# Altium footprint library PCB Footprints.PcbLib: 316 footprints (part 19 of 21)
Each footprint in its own frame and in the unit in brackets; x right, y up, seen from the top. Pads: shape width x height; smd on the part's side, far side on the other; paste and mask are expansions set on the pad; w line width, h text height; cw(c..) or ccw(c..) is an arc to the next point about the centre after c.
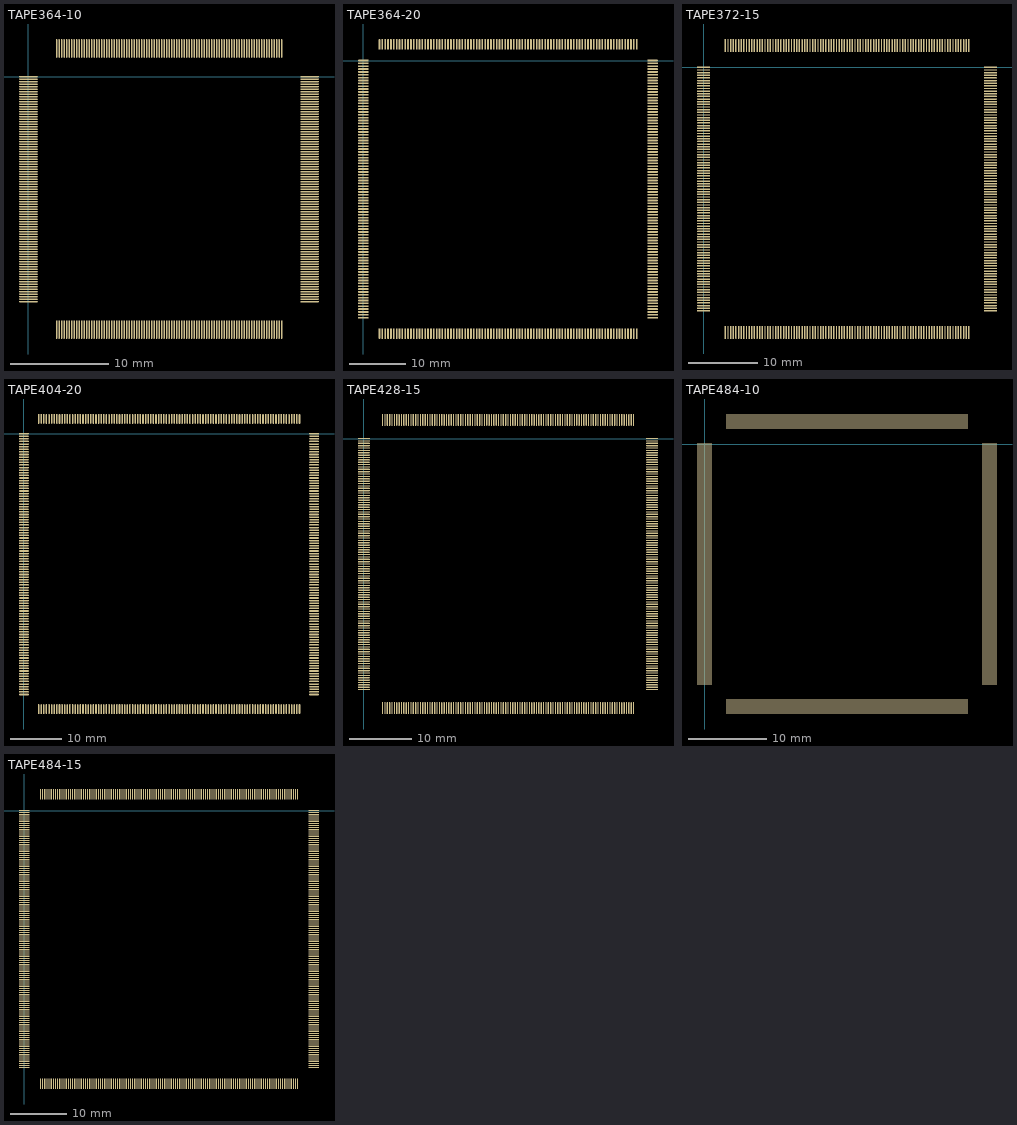
[diagram p18: the footprints below, top view; thin cyan lines are the x and y axes]

## TAPE364-10 [mil]
pads (364):
  oval 75x5 smd: 1(0,0) 2(0,-10) 3(0,-20) 4(0,-30) 5(0,-40) 6(0,-50) 7(0,-60) 8(0,-70) 9(0,-80) 10(0,-90) 11(0,-100) 12(0,-110) 13(0,-120) 14(0,-130) 15(0,-140) 16(0,-150) 17(0,-160) 18(0,-170) 19(0,-180) 20(0,-190) 21(0,-200) 22(0,-210) 23(0,-220) 24(0,-230) 25(0,-240) 26(0,-250) 27(0,-260) 28(0,-270) 29(0,-280) 30(0,-290) 31(0,-300) 32(0,-310) 33(0,-320) 34(0,-330) 35(0,-340) 36(0,-350) 37(0,-360) 38(0,-370) 39(0,-380) 40(0,-390) 41(0,-400) 42(0,-410) 43(0,-420) 44(0,-430) 45(0,-440) 46(0,-450) 47(0,-460) 48(0,-470) 49(0,-480) 50(0,-490) 51(0,-500) 52(0,-510) 53(0,-520) 54(0,-530) 55(0,-540) 56(0,-550) 57(0,-560) 58(0,-570) 59(0,-580) 60(0,-590) 61(0,-600) 62(0,-610) 63(0,-620) 64(0,-630) 65(0,-640) 66(0,-650) 67(0,-660) 68(0,-670) 69(0,-680) 70(0,-690) 71(0,-700) 72(0,-710) 73(0,-720) 74(0,-730) 75(0,-740) 76(0,-750) 77(0,-760) 78(0,-770) 79(0,-780) 80(0,-790) 81(0,-800) 82(0,-810) 83(0,-820) 84(0,-830) 85(0,-840) 86(0,-850) 87(0,-860) 88(0,-870) 89(0,-880) 90(0,-890) 91(0,-900) 183(1125,-900) 184(1125,-890) 185(1125,-880) 186(1125,-870) 187(1125,-860) 188(1125,-850) 189(1125,-840) 190(1125,-830) 191(1125,-820) 192(1125,-810) 193(1125,-800) 194(1125,-790) 195(1125,-780) 196(1125,-770) 197(1125,-760) 198(1125,-750) 199(1125,-740) 200(1125,-730) 201(1125,-720) 202(1125,-710) 203(1125,-700) 204(1125,-690) 205(1125,-680) 206(1125,-670) 207(1125,-660) 208(1125,-650) 209(1125,-640) 210(1125,-630) 211(1125,-620) 212(1125,-610) 213(1125,-600) 214(1125,-590) 215(1125,-580) 216(1125,-570) 217(1125,-560) 218(1125,-550) 219(1125,-540) 220(1125,-530) 221(1125,-520) 222(1125,-510) 223(1125,-500) 224(1125,-490) 225(1125,-480) 226(1125,-470) 227(1125,-460) 228(1125,-450) 229(1125,-440) 230(1125,-430) 231(1125,-420) 232(1125,-410) 233(1125,-400) 234(1125,-390) 235(1125,-380) 236(1125,-370) 237(1125,-360) 238(1125,-350) 239(1125,-340) 240(1125,-330) 241(1125,-320) 242(1125,-310) 243(1125,-300) 244(1125,-290) 245(1125,-280) 246(1125,-270) 247(1125,-260) 248(1125,-250) 249(1125,-240) 250(1125,-230) 251(1125,-220) 252(1125,-210) 253(1125,-200) 254(1125,-190) 255(1125,-180) 256(1125,-170) 257(1125,-160) 258(1125,-150) 259(1125,-140) 260(1125,-130) 261(1125,-120) 262(1125,-110) 263(1125,-100) 264(1125,-90) 265(1125,-80) 266(1125,-70) 267(1125,-60) 268(1125,-50) 269(1125,-40) 270(1125,-30) 271(1125,-20) 272(1125,-10) 273(1125,0)
  oval 5x75 smd: 92(113,-1012) 93(123,-1012) 94(133,-1012) 95(143,-1012) 96(153,-1012) 97(163,-1012) 98(173,-1012) 99(183,-1012) 100(193,-1012) 101(203,-1012) 102(213,-1012) 103(223,-1012) 104(233,-1012) 105(243,-1012) 106(253,-1012) 107(263,-1012) 108(273,-1012) 109(283,-1012) 110(293,-1012) 111(303,-1012) 112(313,-1012) 113(323,-1012) 114(333,-1012) 115(343,-1012) 116(353,-1012) 117(363,-1012) 118(373,-1012) 119(383,-1012) 120(393,-1012) 121(403,-1012) 122(413,-1012) 123(423,-1012) 124(433,-1012) 125(443,-1012) 126(453,-1012) 127(463,-1012) 128(473,-1012) 129(483,-1012) 130(493,-1012) 131(503,-1012) 132(513,-1012) 133(523,-1012) 134(533,-1012) 135(543,-1012) 136(553,-1012) 137(563,-1012) 138(573,-1012) 139(583,-1012) 140(593,-1012) 141(603,-1012) 142(613,-1012) 143(623,-1012) 144(633,-1012) 145(643,-1012) 146(653,-1012) 147(663,-1012) 148(673,-1012) 149(683,-1012) 150(693,-1012) 151(703,-1012) 152(713,-1012) 153(723,-1012) 154(733,-1012) 155(743,-1012) 156(753,-1012) 157(763,-1012) 158(773,-1012) 159(783,-1012) 160(793,-1012) 161(803,-1012) 162(813,-1012) 163(823,-1012) 164(833,-1012) 165(843,-1012) 166(853,-1012) 167(863,-1012) 168(873,-1012) 169(883,-1012) 170(893,-1012) 171(903,-1012) 172(913,-1012) 173(923,-1012) 174(933,-1012) 175(943,-1012) 176(953,-1012) 177(963,-1012) 178(973,-1012) 179(983,-1012) 180(993,-1012) 181(1003,-1012) 182(1013,-1012) 274(1013,113) 275(1003,113) 276(993,113) 277(983,113) 278(973,113) 279(963,113) 280(953,113) 281(943,113) 282(933,113) 283(923,113) 284(913,113) 285(903,113) 286(893,113) 287(883,113) 288(873,113) 289(863,113) 290(853,113) 291(843,113) 292(833,113) 293(823,113) 294(813,113) 295(803,113) 296(793,113) 297(783,113) 298(773,113) 299(763,113) 300(753,113) 301(743,113) 302(733,113) 303(723,113) 304(713,113) 305(703,113) 306(693,113) 307(683,113) 308(673,113) 309(663,113) 310(653,113) 311(643,113) 312(633,113) 313(623,113) 314(613,113) 315(603,113) 316(593,113) 317(583,113) 318(573,113) 319(563,113) 320(553,113) 321(543,113) 322(533,113) 323(523,113) 324(513,113) 325(503,113) 326(493,113) 327(483,113) 328(473,113) 329(463,113) 330(453,113) 331(443,113) 332(433,113) 333(423,113) 334(413,113) 335(403,113) 336(393,113) 337(383,113) 338(373,113) 339(363,113) 340(353,113) 341(343,113) 342(333,113) 343(323,113) 344(313,113) 345(303,113) 346(293,113) 347(283,113) 348(273,113) 349(263,113) 350(253,113) 351(243,113) 352(233,113) 353(223,113) 354(213,113) 355(203,113) 356(193,113) 357(183,113) 358(173,113) 359(163,113) 360(153,113) 361(143,113) 362(133,113) 363(123,113) 364(113,113)

## TAPE364-20 [mil]
pads (364):
  oval 75x12 smd: 1(0,0) 2(0,-20) 3(0,-40) 4(0,-60) 5(0,-80) 6(0,-100) 7(0,-120) 8(0,-140) 9(0,-160) 10(0,-180) 11(0,-200) 12(0,-220) 13(0,-240) 14(0,-260) 15(0,-280) 16(0,-300) 17(0,-320) 18(0,-340) 19(0,-360) 20(0,-380) 21(0,-400) 22(0,-420) 23(0,-440) 24(0,-460) 25(0,-480) 26(0,-500) 27(0,-520) 28(0,-540) 29(0,-560) 30(0,-580) 31(0,-600) 32(0,-620) 33(0,-640) 34(0,-660) 35(0,-680) 36(0,-700) 37(0,-720) 38(0,-740) 39(0,-760) 40(0,-780) 41(0,-800) 42(0,-820) 43(0,-840) 44(0,-860) 45(0,-880) 46(0,-900) 47(0,-920) 48(0,-940) 49(0,-960) 50(0,-980) 51(0,-1000) 52(0,-1020) 53(0,-1040) 54(0,-1060) 55(0,-1080) 56(0,-1100) 57(0,-1120) 58(0,-1140) 59(0,-1160) 60(0,-1180) 61(0,-1200) 62(0,-1220) 63(0,-1240) 64(0,-1260) 65(0,-1280) 66(0,-1300) 67(0,-1320) 68(0,-1340) 69(0,-1360) 70(0,-1380) 71(0,-1400) 72(0,-1420) 73(0,-1440) 74(0,-1460) 75(0,-1480) 76(0,-1500) 77(0,-1520) 78(0,-1540) 79(0,-1560) 80(0,-1580) 81(0,-1600) 82(0,-1620) 83(0,-1640) 84(0,-1660) 85(0,-1680) 86(0,-1700) 87(0,-1720) 88(0,-1740) 89(0,-1760) 90(0,-1780) 91(0,-1800) 183(2025,-1800) 184(2025,-1780) 185(2025,-1760) 186(2025,-1740) 187(2025,-1720) 188(2025,-1700) 189(2025,-1680) 190(2025,-1660) 191(2025,-1640) 192(2025,-1620) 193(2025,-1600) 194(2025,-1580) 195(2025,-1560) 196(2025,-1540) 197(2025,-1520) 198(2025,-1500) 199(2025,-1480) 200(2025,-1460) 201(2025,-1440) 202(2025,-1420) 203(2025,-1400) 204(2025,-1380) 205(2025,-1360) 206(2025,-1340) 207(2025,-1320) 208(2025,-1300) 209(2025,-1280) 210(2025,-1260) 211(2025,-1240) 212(2025,-1220) 213(2025,-1200) 214(2025,-1180) 215(2025,-1160) 216(2025,-1140) 217(2025,-1120) 218(2025,-1100) 219(2025,-1080) 220(2025,-1060) 221(2025,-1040) 222(2025,-1020) 223(2025,-1000) 224(2025,-980) 225(2025,-960) 226(2025,-940) 227(2025,-920) 228(2025,-900) 229(2025,-880) 230(2025,-860) 231(2025,-840) 232(2025,-820) 233(2025,-800) 234(2025,-780) 235(2025,-760) 236(2025,-740) 237(2025,-720) 238(2025,-700) 239(2025,-680) 240(2025,-660) 241(2025,-640) 242(2025,-620) 243(2025,-600) 244(2025,-580) 245(2025,-560) 246(2025,-540) 247(2025,-520) 248(2025,-500) 249(2025,-480) 250(2025,-460) 251(2025,-440) 252(2025,-420) 253(2025,-400) 254(2025,-380) 255(2025,-360) 256(2025,-340) 257(2025,-320) 258(2025,-300) 259(2025,-280) 260(2025,-260) 261(2025,-240) 262(2025,-220) 263(2025,-200) 264(2025,-180) 265(2025,-160) 266(2025,-140) 267(2025,-120) 268(2025,-100) 269(2025,-80) 270(2025,-60) 271(2025,-40) 272(2025,-20) 273(2025,0)
  oval 12x75 smd: 92(113,-1912) 93(133,-1912) 94(153,-1912) 95(173,-1912) 96(193,-1912) 97(213,-1912) 98(233,-1912) 99(253,-1912) 100(273,-1912) 101(293,-1912) 102(313,-1912) 103(333,-1912) 104(353,-1912) 105(373,-1912) 106(393,-1912) 107(413,-1912) 108(433,-1912) 109(453,-1912) 110(473,-1912) 111(493,-1912) 112(513,-1912) 113(533,-1912) 114(553,-1912) 115(573,-1912) 116(593,-1912) 117(613,-1912) 118(633,-1912) 119(653,-1912) 120(673,-1912) 121(693,-1912) 122(713,-1912) 123(733,-1912) 124(753,-1912) 125(773,-1912) 126(793,-1912) 127(813,-1912) 128(833,-1912) 129(853,-1912) 130(873,-1912) 131(893,-1912) 132(913,-1912) 133(933,-1912) 134(953,-1912) 135(973,-1912) 136(993,-1912) 137(1013,-1912) 138(1033,-1912) 139(1053,-1912) 140(1073,-1912) 141(1093,-1912) 142(1113,-1912) 143(1133,-1912) 144(1153,-1912) 145(1173,-1912) 146(1193,-1912) 147(1213,-1912) 148(1233,-1912) 149(1253,-1912) 150(1273,-1912) 151(1293,-1912) 152(1313,-1912) 153(1333,-1912) 154(1353,-1912) 155(1373,-1912) 156(1393,-1912) 157(1413,-1912) 158(1433,-1912) 159(1453,-1912) 160(1473,-1912) 161(1493,-1912) 162(1513,-1912) 163(1533,-1912) 164(1553,-1912) 165(1573,-1912) 166(1593,-1912) 167(1613,-1912) 168(1633,-1912) 169(1653,-1912) 170(1673,-1912) 171(1693,-1912) 172(1713,-1912) 173(1733,-1912) 174(1753,-1912) 175(1773,-1912) 176(1793,-1912) 177(1813,-1912) 178(1833,-1912) 179(1853,-1912) 180(1873,-1912) 181(1893,-1912) 182(1913,-1912) 274(1913,113) 275(1893,113) 276(1873,113) 277(1853,113) 278(1833,113) 279(1813,113) 280(1793,113) 281(1773,113) 282(1753,113) 283(1733,113) 284(1713,113) 285(1693,113) 286(1673,113) 287(1653,113) 288(1633,113) 289(1613,113) 290(1593,113) 291(1573,113) 292(1553,113) 293(1533,113) 294(1513,113) 295(1493,113) 296(1473,113) 297(1453,113) 298(1433,113) 299(1413,113) 300(1393,113) 301(1373,113) 302(1353,113) 303(1333,113) 304(1313,113) 305(1293,113) 306(1273,113) 307(1253,113) 308(1233,113) 309(1213,113) 310(1193,113) 311(1173,113) 312(1153,113) 313(1133,113) 314(1113,113) 315(1093,113) 316(1073,113) 317(1053,113) 318(1033,113) 319(1013,113) 320(993,113) 321(973,113) 322(953,113) 323(933,113) 324(913,113) 325(893,113) 326(873,113) 327(853,113) 328(833,113) 329(813,113) 330(793,113) 331(773,113) 332(753,113) 333(733,113) 334(713,113) 335(693,113) 336(673,113) 337(653,113) 338(633,113) 339(613,113) 340(593,113) 341(573,113) 342(553,113) 343(533,113) 344(513,113) 345(493,113) 346(473,113) 347(453,113) 348(433,113) 349(413,113) 350(393,113) 351(373,113) 352(353,113) 353(333,113) 354(313,113) 355(293,113) 356(273,113) 357(253,113) 358(233,113) 359(213,113) 360(193,113) 361(173,113) 362(153,113) 363(133,113) 364(113,113)

## TAPE372-15 [mil]
pads (372):
  oval 75x8 smd: 1(0,0) 2(0,-15) 3(0,-30) 4(0,-45) 5(0,-60) 6(0,-75) 7(0,-90) 8(0,-105) 9(0,-120) 10(0,-135) 11(0,-150) 12(0,-165) 13(0,-180) 14(0,-195) 15(0,-210) 16(0,-225) 17(0,-240) 18(0,-255) 19(0,-270) 20(0,-285) 21(0,-300) 22(0,-315) 23(0,-330) 24(0,-345) 25(0,-360) 26(0,-375) 27(0,-390) 28(0,-405) 29(0,-420) 30(0,-435) 31(0,-450) 32(0,-465) 33(0,-480) 34(0,-495) 35(0,-510) 36(0,-525) 37(0,-540) 38(0,-555) 39(0,-570) 40(0,-585) 41(0,-600) 42(0,-615) 43(0,-630) 44(0,-645) 45(0,-660) 46(0,-675) 47(0,-690) 48(0,-705) 49(0,-720) 50(0,-735) 51(0,-750) 52(0,-765) 53(0,-780) 54(0,-795) 55(0,-810) 56(0,-825) 57(0,-840) 58(0,-855) 59(0,-870) 60(0,-885) 61(0,-900) 62(0,-915) 63(0,-930) 64(0,-945) 65(0,-960) 66(0,-975) 67(0,-990) 68(0,-1005) 69(0,-1020) 70(0,-1035) 71(0,-1050) 72(0,-1065) 73(0,-1080) 74(0,-1095) 75(0,-1110) 76(0,-1125) 77(0,-1140) 78(0,-1155) 79(0,-1170) 80(0,-1185) 81(0,-1200) 82(0,-1215) 83(0,-1230) 84(0,-1245) 85(0,-1260) 86(0,-1275) 87(0,-1290) 88(0,-1305) 89(0,-1320) 90(0,-1335) 91(0,-1350) 92(0,-1365) 93(0,-1380) 187(1625,-1380) 188(1625,-1365) 189(1625,-1350) 190(1625,-1335) 191(1625,-1320) 192(1625,-1305) 193(1625,-1290) 194(1625,-1275) 195(1625,-1260) 196(1625,-1245) 197(1625,-1230) 198(1625,-1215) 199(1625,-1200) 200(1625,-1185) 201(1625,-1170) 202(1625,-1155) 203(1625,-1140) 204(1625,-1125) 205(1625,-1110) 206(1625,-1095) 207(1625,-1080) 208(1625,-1065) 209(1625,-1050) 210(1625,-1035) 211(1625,-1020) 212(1625,-1005) 213(1625,-990) 214(1625,-975) 215(1625,-960) 216(1625,-945) 217(1625,-930) 218(1625,-915) 219(1625,-900) 220(1625,-885) 221(1625,-870) 222(1625,-855) 223(1625,-840) 224(1625,-825) 225(1625,-810) 226(1625,-795) 227(1625,-780) 228(1625,-765) 229(1625,-750) 230(1625,-735) 231(1625,-720) 232(1625,-705) 233(1625,-690) 234(1625,-675) 235(1625,-660) 236(1625,-645) 237(1625,-630) 238(1625,-615) 239(1625,-600) 240(1625,-585) 241(1625,-570) 242(1625,-555) 243(1625,-540) 244(1625,-525) 245(1625,-510) 246(1625,-495) 247(1625,-480) 248(1625,-465) 249(1625,-450) 250(1625,-435) 251(1625,-420) 252(1625,-405) 253(1625,-390) 254(1625,-375) 255(1625,-360) 256(1625,-345) 257(1625,-330) 258(1625,-315) 259(1625,-300) 260(1625,-285) 261(1625,-270) 262(1625,-255) 263(1625,-240) 264(1625,-225) 265(1625,-210) 266(1625,-195) 267(1625,-180) 268(1625,-165) 269(1625,-150) 270(1625,-135) 271(1625,-120) 272(1625,-105) 273(1625,-90) 274(1625,-75) 275(1625,-60) 276(1625,-45) 277(1625,-30) 278(1625,-15) 279(1625,0)
  oval 8x75 smd: 94(123,-1502) 95(138,-1502) 96(153,-1502) 97(168,-1502) 98(183,-1502) 99(198,-1502) 100(213,-1502) 101(228,-1502) 102(243,-1502) 103(258,-1502) 104(273,-1502) 105(288,-1502) 106(303,-1502) 107(318,-1502) 108(333,-1502) 109(348,-1502) 110(363,-1502) 111(378,-1502) 112(393,-1502) 113(408,-1502) 114(423,-1502) 115(438,-1502) 116(453,-1502) 117(468,-1502) 118(483,-1502) 119(498,-1502) 120(513,-1502) 121(528,-1502) 122(543,-1502) 123(558,-1502) 124(573,-1502) 125(588,-1502) 126(603,-1502) 127(618,-1502) 128(633,-1502) 129(648,-1502) 130(663,-1502) 131(678,-1502) 132(693,-1502) 133(708,-1502) 134(723,-1502) 135(738,-1502) 136(753,-1502) 137(768,-1502) 138(783,-1502) 139(798,-1502) 140(813,-1502) 141(828,-1502) 142(843,-1502) 143(858,-1502) 144(873,-1502) 145(888,-1502) 146(903,-1502) 147(918,-1502) 148(933,-1502) 149(948,-1502) 150(963,-1502) 151(978,-1502) 152(993,-1502) 153(1008,-1502) 154(1023,-1502) 155(1038,-1502) 156(1053,-1502) 157(1068,-1502) 158(1083,-1502) 159(1098,-1502) 160(1113,-1502) 161(1128,-1502) 162(1143,-1502) 163(1158,-1502) 164(1173,-1502) 165(1188,-1502) 166(1203,-1502) 167(1218,-1502) 168(1233,-1502) 169(1248,-1502) 170(1263,-1502) 171(1278,-1502) 172(1293,-1502) 173(1308,-1502) 174(1323,-1502) 175(1338,-1502) 176(1353,-1502) 177(1368,-1502) 178(1383,-1502) 179(1398,-1502) 180(1413,-1502) 181(1428,-1502) 182(1443,-1502) 183(1458,-1502) 184(1473,-1502) 185(1488,-1502) 186(1503,-1502) 280(1503,123) 281(1488,123) 282(1473,123) 283(1458,123) 284(1443,123) 285(1428,123) 286(1413,123) 287(1398,123) 288(1383,123) 289(1368,123) 290(1353,123) 291(1338,123) 292(1323,123) 293(1308,123) 294(1293,123) 295(1278,123) 296(1263,123) 297(1248,123) 298(1233,123) 299(1218,123) 300(1203,123) 301(1188,123) 302(1173,123) 303(1158,123) 304(1143,123) 305(1128,123) 306(1113,123) 307(1098,123) 308(1083,123) 309(1068,123) 310(1053,123) 311(1038,123) 312(1023,123) 313(1008,123) 314(993,123) 315(978,123) 316(963,123) 317(948,123) 318(933,123) 319(918,123) 320(903,123) 321(888,123) 322(873,123) 323(858,123) 324(843,123) 325(828,123) 326(813,123) 327(798,123) 328(783,123) 329(768,123) 330(753,123) 331(738,123) 332(723,123) 333(708,123) 334(693,123) 335(678,123) 336(663,123) 337(648,123) 338(633,123) 339(618,123) 340(603,123) 341(588,123) 342(573,123) 343(558,123) 344(543,123) 345(528,123) 346(513,123) 347(498,123) 348(483,123) 349(468,123) 350(453,123) 351(438,123) 352(423,123) 353(408,123) 354(393,123) 355(378,123) 356(363,123) 357(348,123) 358(333,123) 359(318,123) 360(303,123) 361(288,123) 362(273,123) 363(258,123) 364(243,123) 365(228,123) 366(213,123) 367(198,123) 368(183,123) 369(168,123) 370(153,123) 371(138,123) 372(123,123)

## TAPE404-20 [mil]
pads (404):
  oval 75x12 smd: 1(0,0) 2(0,-20) 3(0,-40) 4(0,-60) 5(0,-80) 6(0,-100) 7(0,-120) 8(0,-140) 9(0,-160) 10(0,-180) 11(0,-200) 12(0,-220) 13(0,-240) 14(0,-260) 15(0,-280) 16(0,-300) 17(0,-320) 18(0,-340) 19(0,-360) 20(0,-380) 21(0,-400) 22(0,-420) 23(0,-440) 24(0,-460) 25(0,-480) 26(0,-500) 27(0,-520) 28(0,-540) 29(0,-560) 30(0,-580) 31(0,-600) 32(0,-620) 33(0,-640) 34(0,-660) 35(0,-680) 36(0,-700) 37(0,-720) 38(0,-740) 39(0,-760) 40(0,-780) 41(0,-800) 42(0,-820) 43(0,-840) 44(0,-860) 45(0,-880) 46(0,-900) 47(0,-920) 48(0,-940) 49(0,-960) 50(0,-980) 51(0,-1000) 52(0,-1020) 53(0,-1040) 54(0,-1060) 55(0,-1080) 56(0,-1100) 57(0,-1120) 58(0,-1140) 59(0,-1160) 60(0,-1180) 61(0,-1200) 62(0,-1220) 63(0,-1240) 64(0,-1260) 65(0,-1280) 66(0,-1300) 67(0,-1320) 68(0,-1340) 69(0,-1360) 70(0,-1380) 71(0,-1400) 72(0,-1420) 73(0,-1440) 74(0,-1460) 75(0,-1480) 76(0,-1500) 77(0,-1520) 78(0,-1540) 79(0,-1560) 80(0,-1580) 81(0,-1600) 82(0,-1620) 83(0,-1640) 84(0,-1660) 85(0,-1680) 86(0,-1700) 87(0,-1720) 88(0,-1740) 89(0,-1760) 90(0,-1780) 91(0,-1800) 92(0,-1820) 93(0,-1840) 94(0,-1860) 95(0,-1880) 96(0,-1900) 97(0,-1920) 98(0,-1940) 99(0,-1960) 100(0,-1980) 101(0,-2000) 203(2225,-2000) 204(2225,-1980) 205(2225,-1960) 206(2225,-1940) 207(2225,-1920) 208(2225,-1900) 209(2225,-1880) 210(2225,-1860) 211(2225,-1840) 212(2225,-1820) 213(2225,-1800) 214(2225,-1780) 215(2225,-1760) 216(2225,-1740) 217(2225,-1720) 218(2225,-1700) 219(2225,-1680) 220(2225,-1660) 221(2225,-1640) 222(2225,-1620) 223(2225,-1600) 224(2225,-1580) 225(2225,-1560) 226(2225,-1540) 227(2225,-1520) 228(2225,-1500) 229(2225,-1480) 230(2225,-1460) 231(2225,-1440) 232(2225,-1420) 233(2225,-1400) 234(2225,-1380) 235(2225,-1360) 236(2225,-1340) 237(2225,-1320) 238(2225,-1300) 239(2225,-1280) 240(2225,-1260) 241(2225,-1240) 242(2225,-1220) 243(2225,-1200) 244(2225,-1180) 245(2225,-1160) 246(2225,-1140) 247(2225,-1120) 248(2225,-1100) 249(2225,-1080) 250(2225,-1060) 251(2225,-1040) 252(2225,-1020) 253(2225,-1000) 254(2225,-980) 255(2225,-960) 256(2225,-940) 257(2225,-920) 258(2225,-900) 259(2225,-880) 260(2225,-860) 261(2225,-840) 262(2225,-820) 263(2225,-800) 264(2225,-780) 265(2225,-760) 266(2225,-740) 267(2225,-720) 268(2225,-700) 269(2225,-680) 270(2225,-660) 271(2225,-640) 272(2225,-620) 273(2225,-600) 274(2225,-580) 275(2225,-560) 276(2225,-540) 277(2225,-520) 278(2225,-500) 279(2225,-480) 280(2225,-460) 281(2225,-440) 282(2225,-420) 283(2225,-400) 284(2225,-380) 285(2225,-360) 286(2225,-340) 287(2225,-320) 288(2225,-300) 289(2225,-280) 290(2225,-260) 291(2225,-240) 292(2225,-220) 293(2225,-200) 294(2225,-180) 295(2225,-160) 296(2225,-140) 297(2225,-120) 298(2225,-100) 299(2225,-80) 300(2225,-60) 301(2225,-40) 302(2225,-20) 303(2225,0)
  oval 12x75 smd: 102(113,-2112) 103(133,-2112) 104(153,-2112) 105(173,-2112) 106(193,-2112) 107(213,-2112) 108(233,-2112) 109(253,-2112) 110(273,-2112) 111(293,-2112) 112(313,-2112) 113(333,-2112) 114(353,-2112) 115(373,-2112) 116(393,-2112) 117(413,-2112) 118(433,-2112) 119(453,-2112) 120(473,-2112) 121(493,-2112) 122(513,-2112) 123(533,-2112) 124(553,-2112) 125(573,-2112) 126(593,-2112) 127(613,-2112) 128(633,-2112) 129(653,-2112) 130(673,-2112) 131(693,-2112) 132(713,-2112) 133(733,-2112) 134(753,-2112) 135(773,-2112) 136(793,-2112) 137(813,-2112) 138(833,-2112) 139(853,-2112) 140(873,-2112) 141(893,-2112) 142(913,-2112) 143(933,-2112) 144(953,-2112) 145(973,-2112) 146(993,-2112) 147(1013,-2112) 148(1033,-2112) 149(1053,-2112) 150(1073,-2112) 151(1093,-2112) 152(1113,-2112) 153(1133,-2112) 154(1153,-2112) 155(1173,-2112) 156(1193,-2112) 157(1213,-2112) 158(1233,-2112) 159(1253,-2112) 160(1273,-2112) 161(1293,-2112) 162(1313,-2112) 163(1333,-2112) 164(1353,-2112) 165(1373,-2112) 166(1393,-2112) 167(1413,-2112) 168(1433,-2112) 169(1453,-2112) 170(1473,-2112) 171(1493,-2112) 172(1513,-2112) 173(1533,-2112) 174(1553,-2112) 175(1573,-2112) 176(1593,-2112) 177(1613,-2112) 178(1633,-2112) 179(1653,-2112) 180(1673,-2112) 181(1693,-2112) 182(1713,-2112) 183(1733,-2112) 184(1753,-2112) 185(1773,-2112) 186(1793,-2112) 187(1813,-2112) 188(1833,-2112) 189(1853,-2112) 190(1873,-2112) 191(1893,-2112) 192(1913,-2112) 193(1933,-2112) 194(1953,-2112) 195(1973,-2112) 196(1993,-2112) 197(2013,-2112) 198(2033,-2112) 199(2053,-2112) 200(2073,-2112) 201(2093,-2112) 202(2113,-2112) 304(2113,113) 305(2093,113) 306(2073,113) 307(2053,113) 308(2033,113) 309(2013,113) 310(1993,113) 311(1973,113) 312(1953,113) 313(1933,113) 314(1913,113) 315(1893,113) 316(1873,113) 317(1853,113) 318(1833,113) 319(1813,113) 320(1793,113) 321(1773,113) 322(1753,113) 323(1733,113) 324(1713,113) 325(1693,113) 326(1673,113) 327(1653,113) 328(1633,113) 329(1613,113) 330(1593,113) 331(1573,113) 332(1553,113) 333(1533,113) 334(1513,113) 335(1493,113) 336(1473,113) 337(1453,113) 338(1433,113) 339(1413,113) 340(1393,113) 341(1373,113) 342(1353,113) 343(1333,113) 344(1313,113) 345(1293,113) 346(1273,113) 347(1253,113) 348(1233,113) 349(1213,113) 350(1193,113) 351(1173,113) 352(1153,113) 353(1133,113) 354(1113,113) 355(1093,113) 356(1073,113) 357(1053,113) 358(1033,113) 359(1013,113) 360(993,113) 361(973,113) 362(953,113) 363(933,113) 364(913,113) 365(893,113) 366(873,113) 367(853,113) 368(833,113) 369(813,113) 370(793,113) 371(773,113) 372(753,113) 373(733,113) 374(713,113) 375(693,113) 376(673,113) 377(653,113) 378(633,113) 379(613,113) 380(593,113) 381(573,113) 382(553,113) 383(533,113) 384(513,113) 385(493,113) 386(473,113) 387(453,113) 388(433,113) 389(413,113) 390(393,113) 391(373,113) 392(353,113) 393(333,113) 394(313,113) 395(293,113) 396(273,113) 397(253,113) 398(233,113) 399(213,113) 400(193,113) 401(173,113) 402(153,113) 403(133,113) 404(113,113)

## TAPE428-15 [mil]
pads (428):
  oval 75x8 smd: 1(0,0) 2(0,-15) 3(0,-30) 4(0,-45) 5(0,-60) 6(0,-75) 7(0,-90) 8(0,-105) 9(0,-120) 10(0,-135) 11(0,-150) 12(0,-165) 13(0,-180) 14(0,-195) 15(0,-210) 16(0,-225) 17(0,-240) 18(0,-255) 19(0,-270) 20(0,-285) 21(0,-300) 22(0,-315) 23(0,-330) 24(0,-345) 25(0,-360) 26(0,-375) 27(0,-390) 28(0,-405) 29(0,-420) 30(0,-435) 31(0,-450) 32(0,-465) 33(0,-480) 34(0,-495) 35(0,-510) 36(0,-525) 37(0,-540) 38(0,-555) 39(0,-570) 40(0,-585) 41(0,-600) 42(0,-615) 43(0,-630) 44(0,-645) 45(0,-660) 46(0,-675) 47(0,-690) 48(0,-705) 49(0,-720) 50(0,-735) 51(0,-750) 52(0,-765) 53(0,-780) 54(0,-795) 55(0,-810) 56(0,-825) 57(0,-840) 58(0,-855) 59(0,-870) 60(0,-885) 61(0,-900) 62(0,-915) 63(0,-930) 64(0,-945) 65(0,-960) 66(0,-975) 67(0,-990) 68(0,-1005) 69(0,-1020) 70(0,-1035) 71(0,-1050) 72(0,-1065) 73(0,-1080) 74(0,-1095) 75(0,-1110) 76(0,-1125) 77(0,-1140) 78(0,-1155) 79(0,-1170) 80(0,-1185) 81(0,-1200) 82(0,-1215) 83(0,-1230) 84(0,-1245) 85(0,-1260) 86(0,-1275) 87(0,-1290) 88(0,-1305) 89(0,-1320) 90(0,-1335) 91(0,-1350) 92(0,-1365) 93(0,-1380) 94(0,-1395) 95(0,-1410) 96(0,-1425) 97(0,-1440) 98(0,-1455) 99(0,-1470) 100(0,-1485) 101(0,-1500) 102(0,-1515) 103(0,-1530) 104(0,-1545) 105(0,-1560) 106(0,-1575) 107(0,-1590) 215(1825,-1590) 216(1825,-1575) 217(1825,-1560) 218(1825,-1545) 219(1825,-1530) 220(1825,-1515) 221(1825,-1500) 222(1825,-1485) 223(1825,-1470) 224(1825,-1455) 225(1825,-1440) 226(1825,-1425) 227(1825,-1410) 228(1825,-1395) 229(1825,-1380) 230(1825,-1365) 231(1825,-1350) 232(1825,-1335) 233(1825,-1320) 234(1825,-1305) 235(1825,-1290) 236(1825,-1275) 237(1825,-1260) 238(1825,-1245) 239(1825,-1230) 240(1825,-1215) 241(1825,-1200) 242(1825,-1185) 243(1825,-1170) 244(1825,-1155) 245(1825,-1140) 246(1825,-1125) 247(1825,-1110) 248(1825,-1095) 249(1825,-1080) 250(1825,-1065) 251(1825,-1050) 252(1825,-1035) 253(1825,-1020) 254(1825,-1005) 255(1825,-990) 256(1825,-975) 257(1825,-960) 258(1825,-945) 259(1825,-930) 260(1825,-915) 261(1825,-900) 262(1825,-885) 263(1825,-870) 264(1825,-855) 265(1825,-840) 266(1825,-825) 267(1825,-810) 268(1825,-795) 269(1825,-780) 270(1825,-765) 271(1825,-750) 272(1825,-735) 273(1825,-720) 274(1825,-705) 275(1825,-690) 276(1825,-675) 277(1825,-660) 278(1825,-645) 279(1825,-630) 280(1825,-615) 281(1825,-600) 282(1825,-585) 283(1825,-570) 284(1825,-555) 285(1825,-540) 286(1825,-525) 287(1825,-510) 288(1825,-495) 289(1825,-480) 290(1825,-465) 291(1825,-450) 292(1825,-435) 293(1825,-420) 294(1825,-405) 295(1825,-390) 296(1825,-375) 297(1825,-360) 298(1825,-345) 299(1825,-330) 300(1825,-315) 301(1825,-300) 302(1825,-285) 303(1825,-270) 304(1825,-255) 305(1825,-240) 306(1825,-225) 307(1825,-210) 308(1825,-195) 309(1825,-180) 310(1825,-165) 311(1825,-150) 312(1825,-135) 313(1825,-120) 314(1825,-105) 315(1825,-90) 316(1825,-75) 317(1825,-60) 318(1825,-45) 319(1825,-30) 320(1825,-15) 321(1825,0)
  oval 8x75 smd: 108(118,-1707) 109(133,-1707) 110(148,-1707) 111(163,-1707) 112(178,-1707) 113(193,-1707) 114(208,-1707) 115(223,-1707) 116(238,-1707) 117(253,-1707) 118(268,-1707) 119(283,-1707) 120(298,-1707) 121(313,-1707) 122(328,-1707) 123(343,-1707) 124(358,-1707) 125(373,-1707) 126(388,-1707) 127(403,-1707) 128(418,-1707) 129(433,-1707) 130(448,-1707) 131(463,-1707) 132(478,-1707) 133(493,-1707) 134(508,-1707) 135(523,-1707) 136(538,-1707) 137(553,-1707) 138(568,-1707) 139(583,-1707) 140(598,-1707) 141(613,-1707) 142(628,-1707) 143(643,-1707) 144(658,-1707) 145(673,-1707) 146(688,-1707) 147(703,-1707) 148(718,-1707) 149(733,-1707) 150(748,-1707) 151(763,-1707) 152(778,-1707) 153(793,-1707) 154(808,-1707) 155(823,-1707) 156(838,-1707) 157(853,-1707) 158(868,-1707) 159(883,-1707) 160(898,-1707) 161(913,-1707) 162(928,-1707) 163(943,-1707) 164(958,-1707) 165(973,-1707) 166(988,-1707) 167(1003,-1707) 168(1018,-1707) 169(1033,-1707) 170(1048,-1707) 171(1063,-1707) 172(1078,-1707) 173(1093,-1707) 174(1108,-1707) 175(1123,-1707) 176(1138,-1707) 177(1153,-1707) 178(1168,-1707) 179(1183,-1707) 180(1198,-1707) 181(1213,-1707) 182(1228,-1707) 183(1243,-1707) 184(1258,-1707) 185(1273,-1707) 186(1288,-1707) 187(1303,-1707) 188(1318,-1707) 189(1333,-1707) 190(1348,-1707) 191(1363,-1707) 192(1378,-1707) 193(1393,-1707) 194(1408,-1707) 195(1423,-1707) 196(1438,-1707) 197(1453,-1707) 198(1468,-1707) 199(1483,-1707) 200(1498,-1707) 201(1513,-1707) 202(1528,-1707) 203(1543,-1707) 204(1558,-1707) 205(1573,-1707) 206(1588,-1707) 207(1603,-1707) 208(1618,-1707) 209(1633,-1707) 210(1648,-1707) 211(1663,-1707) 212(1678,-1707) 213(1693,-1707) 214(1708,-1707) 322(1708,118) 323(1693,118) 324(1678,118) 325(1663,118) 326(1648,118) 327(1633,118) 328(1618,118) 329(1603,118) 330(1588,118) 331(1573,118) 332(1558,118) 333(1543,118) 334(1528,118) 335(1513,118) 336(1498,118) 337(1483,118) 338(1468,118) 339(1453,118) 340(1438,118) 341(1423,118) 342(1408,118) 343(1393,118) 344(1378,118) 345(1363,118) 346(1348,118) 347(1333,118) 348(1318,118) 349(1303,118) 350(1288,118) 351(1273,118) 352(1258,118) 353(1243,118) 354(1228,118) 355(1213,118) 356(1198,118) 357(1183,118) 358(1168,118) 359(1153,118) 360(1138,118) 361(1123,118) 362(1108,118) 363(1093,118) 364(1078,118) 365(1063,118) 366(1048,118) 367(1033,118) 368(1018,118) 369(1003,118) 370(988,118) 371(973,118) 372(958,118) 373(943,118) 374(928,118) 375(913,118) 376(898,118) 377(883,118) 378(868,118) 379(853,118) 380(838,118) 381(823,118) 382(808,118) 383(793,118) 384(778,118) 385(763,118) 386(748,118) 387(733,118) 388(718,118) 389(703,118) 390(688,118) 391(673,118) 392(658,118) 393(643,118) 394(628,118) 395(613,118) 396(598,118) 397(583,118) 398(568,118) 399(553,118) 400(538,118) 401(523,118) 402(508,118) 403(493,118) 404(478,118) 405(463,118) 406(448,118) 407(433,118) 408(418,118) 409(403,118) 410(388,118) 411(373,118) 412(358,118) 413(343,118) 414(328,118) 415(313,118) 416(298,118) 417(283,118) 418(268,118) 419(253,118) 420(238,118) 421(223,118) 422(208,118) 423(193,118) 424(178,118) 425(163,118) 426(148,118) 427(133,118) 428(118,118)

## TAPE484-10 [mil]
pads (484):
  oval 75x5 smd: 1(0,0) 2(0,-10) 3(0,-20) 4(0,-30) 5(0,-40) 6(0,-50) 7(0,-60) 8(0,-70) 9(0,-80) 10(0,-90) 11(0,-100) 12(0,-110) 13(0,-120) 14(0,-130) 15(0,-140) 16(0,-150) 17(0,-160) 18(0,-170) 19(0,-180) 20(0,-190) 21(0,-200) 22(0,-210) 23(0,-220) 24(0,-230) 25(0,-240) 26(0,-250) 27(0,-260) 28(0,-270) 29(0,-280) 30(0,-290) 31(0,-300) 32(0,-310) 33(0,-320) 34(0,-330) 35(0,-340) 36(0,-350) 37(0,-360) 38(0,-370) 39(0,-380) 40(0,-390) 41(0,-400) 42(0,-410) 43(0,-420) 44(0,-430) 45(0,-440) 46(0,-450) 47(0,-460) 48(0,-470) 49(0,-480) 50(0,-490) 51(0,-500) 52(0,-510) 53(0,-520) 54(0,-530) 55(0,-540) 56(0,-550) 57(0,-560) 58(0,-570) 59(0,-580) 60(0,-590) 61(0,-600) 62(0,-610) 63(0,-620) 64(0,-630) 65(0,-640) 66(0,-650) 67(0,-660) 68(0,-670) 69(0,-680) 70(0,-690) 71(0,-700) 72(0,-710) 73(0,-720) 74(0,-730) 75(0,-740) 76(0,-750) 77(0,-760) 78(0,-770) 79(0,-780) 80(0,-790) 81(0,-800) 82(0,-810) 83(0,-820) 84(0,-830) 85(0,-840) 86(0,-850) 87(0,-860) 88(0,-870) 89(0,-880) 90(0,-890) 91(0,-900) 92(0,-910) 93(0,-920) 94(0,-930) 95(0,-940) 96(0,-950) 97(0,-960) 98(0,-970) 99(0,-980) 100(0,-990) 101(0,-1000) 102(0,-1010) 103(0,-1020) 104(0,-1030) 105(0,-1040) 106(0,-1050) 107(0,-1060) 108(0,-1070) 109(0,-1080) 110(0,-1090) 111(0,-1100) 112(0,-1110) 113(0,-1120) 114(0,-1130) 115(0,-1140) 116(0,-1150) 117(0,-1160) 118(0,-1170) 119(0,-1180) 120(0,-1190) 121(0,-1200) 243(1425,-1200) 244(1425,-1190) 245(1425,-1180) 246(1425,-1170) 247(1425,-1160) 248(1425,-1150) 249(1425,-1140) 250(1425,-1130) 251(1425,-1120) 252(1425,-1110) 253(1425,-1100) 254(1425,-1090) 255(1425,-1080) 256(1425,-1070) 257(1425,-1060) 258(1425,-1050) 259(1425,-1040) 260(1425,-1030) 261(1425,-1020) 262(1425,-1010) 263(1425,-1000) 264(1425,-990) 265(1425,-980) 266(1425,-970) 267(1425,-960) 268(1425,-950) 269(1425,-940) 270(1425,-930) 271(1425,-920) 272(1425,-910) 273(1425,-900) 274(1425,-890) 275(1425,-880) 276(1425,-870) 277(1425,-860) 278(1425,-850) 279(1425,-840) 280(1425,-830) 281(1425,-820) 282(1425,-810) 283(1425,-800) 284(1425,-790) 285(1425,-780) 286(1425,-770) 287(1425,-760) 288(1425,-750) 289(1425,-740) 290(1425,-730) 291(1425,-720) 292(1425,-710) 293(1425,-700) 294(1425,-690) 295(1425,-680) 296(1425,-670) 297(1425,-660) 298(1425,-650) 299(1425,-640) 300(1425,-630) 301(1425,-620) 302(1425,-610) 303(1425,-600) 304(1425,-590) 305(1425,-580) 306(1425,-570) 307(1425,-560) 308(1425,-550) 309(1425,-540) 310(1425,-530) 311(1425,-520) 312(1425,-510) 313(1425,-500) 314(1425,-490) 315(1425,-480) 316(1425,-470) 317(1425,-460) 318(1425,-450) 319(1425,-440) 320(1425,-430) 321(1425,-420) 322(1425,-410) 323(1425,-400) 324(1425,-390) 325(1425,-380) 326(1425,-370) 327(1425,-360) 328(1425,-350) 329(1425,-340) 330(1425,-330) 331(1425,-320) 332(1425,-310) 333(1425,-300) 334(1425,-290) 335(1425,-280) 336(1425,-270) 337(1425,-260) 338(1425,-250) 339(1425,-240) 340(1425,-230) 341(1425,-220) 342(1425,-210) 343(1425,-200) 344(1425,-190) 345(1425,-180) 346(1425,-170) 347(1425,-160) 348(1425,-150) 349(1425,-140) 350(1425,-130) 351(1425,-120) 352(1425,-110) 353(1425,-100) 354(1425,-90) 355(1425,-80) 356(1425,-70) 357(1425,-60) 358(1425,-50) 359(1425,-40) 360(1425,-30) 361(1425,-20) 362(1425,-10) 363(1425,0)
  oval 5x75 smd: 122(113,-1312) 123(123,-1312) 124(133,-1312) 125(143,-1312) 126(153,-1312) 127(163,-1312) 128(173,-1312) 129(183,-1312) 130(193,-1312) 131(203,-1312) 132(213,-1312) 133(223,-1312) 134(233,-1312) 135(243,-1312) 136(253,-1312) 137(263,-1312) 138(273,-1312) 139(283,-1312) 140(293,-1312) 141(303,-1312) 142(313,-1312) 143(323,-1312) 144(333,-1312) 145(343,-1312) 146(353,-1312) 147(363,-1312) 148(373,-1312) 149(383,-1312) 150(393,-1312) 151(403,-1312) 152(413,-1312) 153(423,-1312) 154(433,-1312) 155(443,-1312) 156(453,-1312) 157(463,-1312) 158(473,-1312) 159(483,-1312) 160(493,-1312) 161(503,-1312) 162(513,-1312) 163(523,-1312) 164(533,-1312) 165(543,-1312) 166(553,-1312) 167(563,-1312) 168(573,-1312) 169(583,-1312) 170(593,-1312) 171(603,-1312) 172(613,-1312) 173(623,-1312) 174(633,-1312) 175(643,-1312) 176(653,-1312) 177(663,-1312) 178(673,-1312) 179(683,-1312) 180(693,-1312) 181(703,-1312) 182(713,-1312) 183(723,-1312) 184(733,-1312) 185(743,-1312) 186(753,-1312) 187(763,-1312) 188(773,-1312) 189(783,-1312) 190(793,-1312) 191(803,-1312) 192(813,-1312) 193(823,-1312) 194(833,-1312) 195(843,-1312) 196(853,-1312) 197(863,-1312) 198(873,-1312) 199(883,-1312) 200(893,-1312) 201(903,-1312) 202(913,-1312) 203(923,-1312) 204(933,-1312) 205(943,-1312) 206(953,-1312) 207(963,-1312) 208(973,-1312) 209(983,-1312) 210(993,-1312) 211(1003,-1312) 212(1013,-1312) 213(1023,-1312) 214(1033,-1312) 215(1043,-1312) 216(1053,-1312) 217(1063,-1312) 218(1073,-1312) 219(1083,-1312) 220(1093,-1312) 221(1103,-1312) 222(1113,-1312) 223(1123,-1312) 224(1133,-1312) 225(1143,-1312) 226(1153,-1312) 227(1163,-1312) 228(1173,-1312) 229(1183,-1312) 230(1193,-1312) 231(1203,-1312) 232(1213,-1312) 233(1223,-1312) 234(1233,-1312) 235(1243,-1312) 236(1253,-1312) 237(1263,-1312) 238(1273,-1312) 239(1283,-1312) 240(1293,-1312) 241(1303,-1312) 242(1313,-1312) 364(1313,113) 365(1303,113) 366(1293,113) 367(1283,113) 368(1273,113) 369(1263,113) 370(1253,113) 371(1243,113) 372(1233,113) 373(1223,113) 374(1213,113) 375(1203,113) 376(1193,113) 377(1183,113) 378(1173,113) 379(1163,113) 380(1153,113) 381(1143,113) 382(1133,113) 383(1123,113) 384(1113,113) 385(1103,113) 386(1093,113) 387(1083,113) 388(1073,113) 389(1063,113) 390(1053,113) 391(1043,113) 392(1033,113) 393(1023,113) 394(1013,113) 395(1003,113) 396(993,113) 397(983,113) 398(973,113) 399(963,113) 400(953,113) 401(943,113) 402(933,113) 403(923,113) 404(913,113) 405(903,113) 406(893,113) 407(883,113) 408(873,113) 409(863,113) 410(853,113) 411(843,113) 412(833,113) 413(823,113) 414(813,113) 415(803,113) 416(793,113) 417(783,113) 418(773,113) 419(763,113) 420(753,113) 421(743,113) 422(733,113) 423(723,113) 424(713,113) 425(703,113) 426(693,113) 427(683,113) 428(673,113) 429(663,113) 430(653,113) 431(643,113) 432(633,113) 433(623,113) 434(613,113) 435(603,113) 436(593,113) 437(583,113) 438(573,113) 439(563,113) 440(553,113) 441(543,113) 442(533,113) 443(523,113) 444(513,113) 445(503,113) 446(493,113) 447(483,113) 448(473,113) 449(463,113) 450(453,113) 451(443,113) 452(433,113) 453(423,113) 454(413,113) 455(403,113) 456(393,113) 457(383,113) 458(373,113) 459(363,113) 460(353,113) 461(343,113) 462(333,113) 463(323,113) 464(313,113) 465(303,113) 466(293,113) 467(283,113) 468(273,113) 469(263,113) 470(253,113) 471(243,113) 472(233,113) 473(223,113) 474(213,113) 475(203,113) 476(193,113) 477(183,113) 478(173,113) 479(163,113) 480(153,113) 481(143,113) 482(133,113) 483(123,113) 484(113,113)

## TAPE484-15 [mil]
pads (484):
  oval 75x8 smd: 1(0,0) 2(0,-15) 3(0,-30) 4(0,-45) 5(0,-60) 6(0,-75) 7(0,-90) 8(0,-105) 9(0,-120) 10(0,-135) 11(0,-150) 12(0,-165) 13(0,-180) 14(0,-195) 15(0,-210) 16(0,-225) 17(0,-240) 18(0,-255) 19(0,-270) 20(0,-285) 21(0,-300) 22(0,-315) 23(0,-330) 24(0,-345) 25(0,-360) 26(0,-375) 27(0,-390) 28(0,-405) 29(0,-420) 30(0,-435) 31(0,-450) 32(0,-465) 33(0,-480) 34(0,-495) 35(0,-510) 36(0,-525) 37(0,-540) 38(0,-555) 39(0,-570) 40(0,-585) 41(0,-600) 42(0,-615) 43(0,-630) 44(0,-645) 45(0,-660) 46(0,-675) 47(0,-690) 48(0,-705) 49(0,-720) 50(0,-735) 51(0,-750) 52(0,-765) 53(0,-780) 54(0,-795) 55(0,-810) 56(0,-825) 57(0,-840) 58(0,-855) 59(0,-870) 60(0,-885) 61(0,-900) 62(0,-915) 63(0,-930) 64(0,-945) 65(0,-960) 66(0,-975) 67(0,-990) 68(0,-1005) 69(0,-1020) 70(0,-1035) 71(0,-1050) 72(0,-1065) 73(0,-1080) 74(0,-1095) 75(0,-1110) 76(0,-1125) 77(0,-1140) 78(0,-1155) 79(0,-1170) 80(0,-1185) 81(0,-1200) 82(0,-1215) 83(0,-1230) 84(0,-1245) 85(0,-1260) 86(0,-1275) 87(0,-1290) 88(0,-1305) 89(0,-1320) 90(0,-1335) 91(0,-1350) 92(0,-1365) 93(0,-1380) 94(0,-1395) 95(0,-1410) 96(0,-1425) 97(0,-1440) 98(0,-1455) 99(0,-1470) 100(0,-1485) 101(0,-1500) 102(0,-1515) 103(0,-1530) 104(0,-1545) 105(0,-1560) 106(0,-1575) 107(0,-1590) 108(0,-1605) 109(0,-1620) 110(0,-1635) 111(0,-1650) 112(0,-1665) 113(0,-1680) 114(0,-1695) 115(0,-1710) 116(0,-1725) 117(0,-1740) 118(0,-1755) 119(0,-1770) 120(0,-1785) 121(0,-1800) 243(2025,-1800) 244(2025,-1785) 245(2025,-1770) 246(2025,-1755) 247(2025,-1740) 248(2025,-1725) 249(2025,-1710) 250(2025,-1695) 251(2025,-1680) 252(2025,-1665) 253(2025,-1650) 254(2025,-1635) 255(2025,-1620) 256(2025,-1605) 257(2025,-1590) 258(2025,-1575) 259(2025,-1560) 260(2025,-1545) 261(2025,-1530) 262(2025,-1515) 263(2025,-1500) 264(2025,-1485) 265(2025,-1470) 266(2025,-1455) 267(2025,-1440) 268(2025,-1425) 269(2025,-1410) 270(2025,-1395) 271(2025,-1380) 272(2025,-1365) 273(2025,-1350) 274(2025,-1335) 275(2025,-1320) 276(2025,-1305) 277(2025,-1290) 278(2025,-1275) 279(2025,-1260) 280(2025,-1245) 281(2025,-1230) 282(2025,-1215) 283(2025,-1200) 284(2025,-1185) 285(2025,-1170) 286(2025,-1155) 287(2025,-1140) 288(2025,-1125) 289(2025,-1110) 290(2025,-1095) 291(2025,-1080) 292(2025,-1065) 293(2025,-1050) 294(2025,-1035) 295(2025,-1020) 296(2025,-1005) 297(2025,-990) 298(2025,-975) 299(2025,-960) 300(2025,-945) 301(2025,-930) 302(2025,-915) 303(2025,-900) 304(2025,-885) 305(2025,-870) 306(2025,-855) 307(2025,-840) 308(2025,-825) 309(2025,-810) 310(2025,-795) 311(2025,-780) 312(2025,-765) 313(2025,-750) 314(2025,-735) 315(2025,-720) 316(2025,-705) 317(2025,-690) 318(2025,-675) 319(2025,-660) 320(2025,-645) 321(2025,-630) 322(2025,-615) 323(2025,-600) 324(2025,-585) 325(2025,-570) 326(2025,-555) 327(2025,-540) 328(2025,-525) 329(2025,-510) 330(2025,-495) 331(2025,-480) 332(2025,-465) 333(2025,-450) 334(2025,-435) 335(2025,-420) 336(2025,-405) 337(2025,-390) 338(2025,-375) 339(2025,-360) 340(2025,-345) 341(2025,-330) 342(2025,-315) 343(2025,-300) 344(2025,-285) 345(2025,-270) 346(2025,-255) 347(2025,-240) 348(2025,-225) 349(2025,-210) 350(2025,-195) 351(2025,-180) 352(2025,-165) 353(2025,-150) 354(2025,-135) 355(2025,-120) 356(2025,-105) 357(2025,-90) 358(2025,-75) 359(2025,-60) 360(2025,-45) 361(2025,-30) 362(2025,-15) 363(2025,0)
  oval 8x75 smd: 122(113,-1912) 123(128,-1912) 124(143,-1912) 125(158,-1912) 126(173,-1912) 127(188,-1912) 128(203,-1912) 129(218,-1912) 130(233,-1912) 131(248,-1912) 132(263,-1912) 133(278,-1912) 134(293,-1912) 135(308,-1912) 136(323,-1912) 137(338,-1912) 138(353,-1912) 139(368,-1912) 140(383,-1912) 141(398,-1912) 142(413,-1912) 143(428,-1912) 144(443,-1912) 145(458,-1912) 146(473,-1912) 147(488,-1912) 148(503,-1912) 149(518,-1912) 150(533,-1912) 151(548,-1912) 152(563,-1912) 153(578,-1912) 154(593,-1912) 155(608,-1912) 156(623,-1912) 157(638,-1912) 158(653,-1912) 159(668,-1912) 160(683,-1912) 161(698,-1912) 162(713,-1912) 163(728,-1912) 164(743,-1912) 165(758,-1912) 166(773,-1912) 167(788,-1912) 168(803,-1912) 169(818,-1912) 170(833,-1912) 171(848,-1912) 172(863,-1912) 173(878,-1912) 174(893,-1912) 175(908,-1912) 176(923,-1912) 177(938,-1912) 178(953,-1912) 179(968,-1912) 180(983,-1912) 181(998,-1912) 182(1013,-1912) 183(1028,-1912) 184(1043,-1912) 185(1058,-1912) 186(1073,-1912) 187(1088,-1912) 188(1103,-1912) 189(1118,-1912) 190(1133,-1912) 191(1148,-1912) 192(1163,-1912) 193(1178,-1912) 194(1193,-1912) 195(1208,-1912) 196(1223,-1912) 197(1238,-1912) 198(1253,-1912) 199(1268,-1912) 200(1283,-1912) 201(1298,-1912) 202(1313,-1912) 203(1328,-1912) 204(1343,-1912) 205(1358,-1912) 206(1373,-1912) 207(1388,-1912) 208(1403,-1912) 209(1418,-1912) 210(1433,-1912) 211(1448,-1912) 212(1463,-1912) 213(1478,-1912) 214(1493,-1912) 215(1508,-1912) 216(1523,-1912) 217(1538,-1912) 218(1553,-1912) 219(1568,-1912) 220(1583,-1912) 221(1598,-1912) 222(1613,-1912) 223(1628,-1912) 224(1643,-1912) 225(1658,-1912) 226(1673,-1912) 227(1688,-1912) 228(1703,-1912) 229(1718,-1912) 230(1733,-1912) 231(1748,-1912) 232(1763,-1912) 233(1778,-1912) 234(1793,-1912) 235(1808,-1912) 236(1823,-1912) 237(1838,-1912) 238(1853,-1912) 239(1868,-1912) 240(1883,-1912) 241(1898,-1912) 242(1913,-1912) 364(1913,113) 365(1898,113) 366(1883,113) 367(1868,113) 368(1853,113) 369(1838,113) 370(1823,113) 371(1808,113) 372(1793,113) 373(1778,113) 374(1763,113) 375(1748,113) 376(1733,113) 377(1718,113) 378(1703,113) 379(1688,113) 380(1673,113) 381(1658,113) 382(1643,113) 383(1628,113) 384(1613,113) 385(1598,113) 386(1583,113) 387(1568,113) 388(1553,113) 389(1538,113) 390(1523,113) 391(1508,113) 392(1493,113) 393(1478,113) 394(1463,113) 395(1448,113) 396(1433,113) 397(1418,113) 398(1403,113) 399(1388,113) 400(1373,113) 401(1358,113) 402(1343,113) 403(1328,113) 404(1313,113) 405(1298,113) 406(1283,113) 407(1268,113) 408(1253,113) 409(1238,113) 410(1223,113) 411(1208,113) 412(1193,113) 413(1178,113) 414(1163,113) 415(1148,113) 416(1133,113) 417(1118,113) 418(1103,113) 419(1088,113) 420(1073,113) 421(1058,113) 422(1043,113) 423(1028,113) 424(1013,113) 425(998,113) 426(983,113) 427(968,113) 428(953,113) 429(938,113) 430(923,113) 431(908,113) 432(893,113) 433(878,113) 434(863,113) 435(848,113) 436(833,113) 437(818,113) 438(803,113) 439(788,113) 440(773,113) 441(758,113) 442(743,113) 443(728,113) 444(713,113) 445(698,113) 446(683,113) 447(668,113) 448(653,113) 449(638,113) 450(623,113) 451(608,113) 452(593,113) 453(578,113) 454(563,113) 455(548,113) 456(533,113) 457(518,113) 458(503,113) 459(488,113) 460(473,113) 461(458,113) 462(443,113) 463(428,113) 464(413,113) 465(398,113) 466(383,113) 467(368,113) 468(353,113) 469(338,113) 470(323,113) 471(308,113) 472(293,113) 473(278,113) 474(263,113) 475(248,113) 476(233,113) 477(218,113) 478(203,113) 479(188,113) 480(173,113) 481(158,113) 482(143,113) 483(128,113) 484(113,113)